# EAGLE library part FABO_BREAKOUT_ARDUINO_SPI (library FaBo-Template)
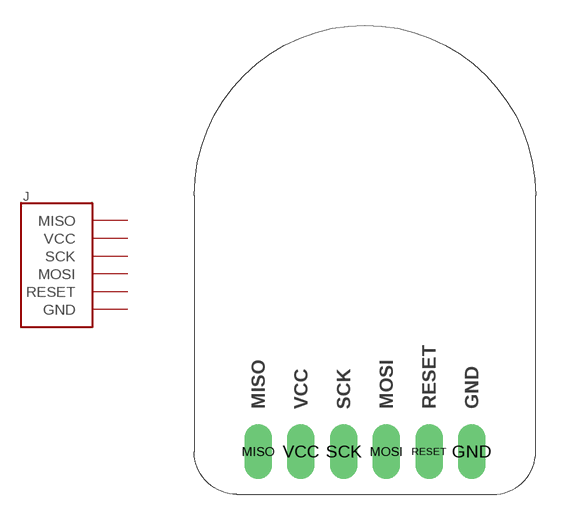
[diagram p4: symbol with the pads of FABO_BREAKOUT_ARDUINO_SPI; footprint FABO_BREAKOUT_ARDUINO_SPI]

Designator prefix J

## FABO_BREAKOUT_ARDUINO_SPI  [FABO_BREAKOUT_ARDUINO_SPI]
GND  GND
MISO  MISO
MOSI  MOSI
RESET  RESET
SCK  SCK
VCC  VCC

## Footprint FABO_BREAKOUT_ARDUINO_SPI (pad centres in mm)
drill 1.1 long: GND 6.35,-11.43; MISO -6.35,-11.43; MOSI 1.27,-11.43; RESET 3.81,-11.43; SCK -1.27,-11.43; VCC -3.81,-11.43